# Altium schematic symbol library temp.SchLib: 4 symbols
Pins are listed as number, name and electrical type; pins without a type are passive.

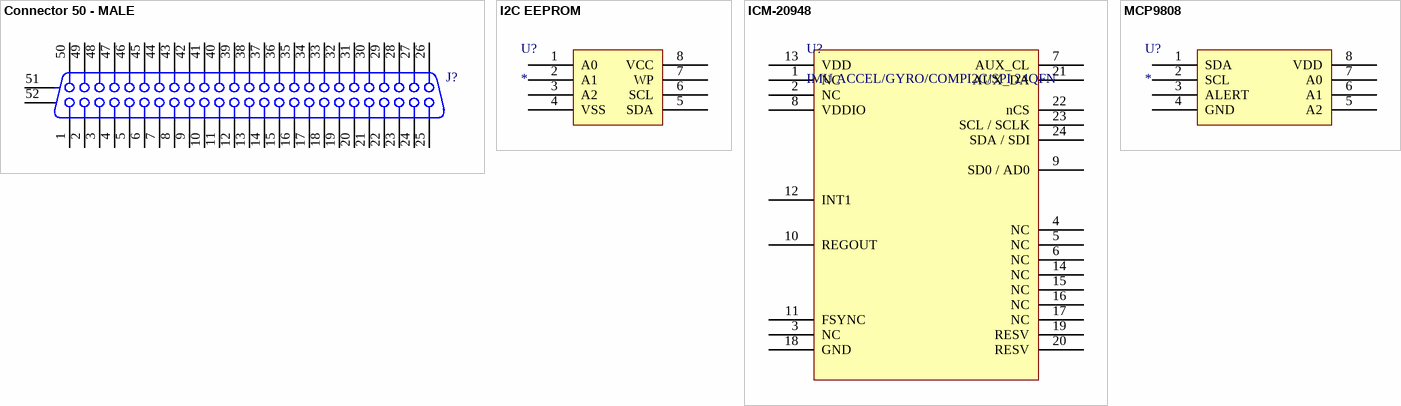
[diagram p0: symbols Connector 50 - MALE to MCP9808]

## Connector 50 - MALE
designator J?
Receptacle Header Assemby; Manufacturer: HARTING; Manufacturer P/N: 09665526616; Digikey Link: https://www.digikey.com/product-detail/en/harting/09665627811/1195-5057-ND/4322749; Digikey P/N: 1195-5057-ND
footprint 050DSUB1.27-H96-MALE (Connector; D Subminiature; 96 Position; Right Angle; Pitch 1.27 mm)
pins: 1, 2, 3, 4, 5, 6, 7, 8, 9, 10, 11, 12, 13, 14, 15, 16, 17, 18, 19, 20, 21, 22, 23, 24, 25, 26, 27, 28, 29, 30, 31, 32, 33, 34, 35, 36, 37, 38, 39, 40, 41, 42, 43, 44, 45, 46, 47, 48, 49, 50, 51, 52

## I2C EEPROM
designator U?
IC EEPROM 32K I2C 1MHZ 8SOIC; Manufacturer: ON Semi; Manufacturer P/N: CAT24C32WI-GT3; Digikey P/N: CAT24C32WI-Gt3CT-ND
footprint SOIC127P600X175-8N (SOIC, 8-Leads, Body 4.90x3.90mm, Pitch 1.27mm, IPC Medium Density)
pins: 1 A0, 2 A1, 3 A2, 4 VSS (power), 5 SDA, 6 SCL, 7 WP, 8 VCC (power)

## ICM-20948
designator U?, comment IMU ACCEL/GYRO/COMPI2C/SPI 24QFN
Manufacturer: TDK InvenSense; Manufacturer P/N: ICM-20948; Digikey Link: https://www.digikey.com/product-detail/en/tdk-invensense/ICM-20948/1428-1123-1-ND/7062698; Digikey P/N: 1428-1123-1-ND
footprint QFN40P300X300X105-25N
pins: 1 NC, 2 NC, 3 NC, 4 NC, 5 NC, 6 NC, 7 AUX_CL, 8 VDDIO, 9 SD0 / AD0, 10 REGOUT, 11 FSYNC, 12 INT1, 13 VDD, 14 NC, 15 NC, 16 NC, 17 NC, 18 GND, 19 RESV, 20 RESV, 21 AUX_DA, 22 nCS, 23 SCL / SCLK, 24 SDA / SDI

## MCP9808
designator U?
SENSOR DIGITAL -40C-125C 8MSOP; Manufacturer: Microchip; Manufacturer P/N: MCP9808; Digikey Link: https://www.digikey.com/product-detail/en/microchip-technology/MCP9808-E-MS/MCP9808-E-MS-ND/2802083; Digikey P/N: MCP9808-E/MS-ND; Datasheet: http://ww1.microchip.com/downloads/en/DeviceDoc/25095A.pdf
footprint TSOP65P490X110-8N (TSOP, 8-Leads, Body 3.00x3.00mm, Pitch 0.65mm, IPC Medium Density)
pins: 1 SDA, 2 SCL, 3 ALERT, 4 GND (power), 5 A2, 6 A1, 7 A0, 8 VDD (power)